# EAGLE library part PRO_TRINKET (library TinkerTech)
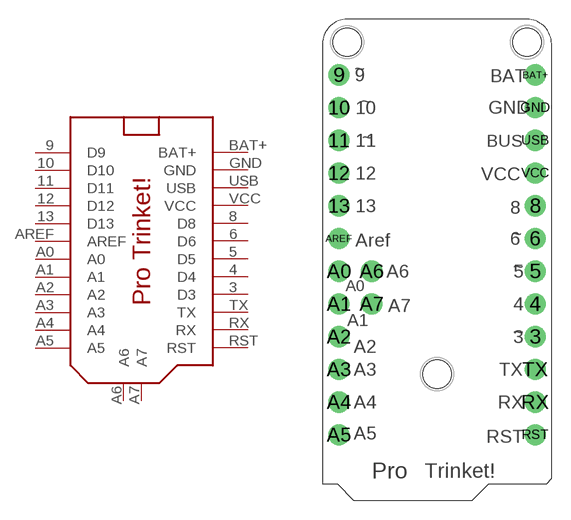
[diagram p0: symbol with the pads of PROTRINKET; footprint PROTRINKET]

Designator prefix -

## PRO_TRINKET  [PROTRINKET]
3  D3
4  D4
5  D5
6  D6
8  D8
9  D9
10  D10
11  D11
12  D12
13  D13
A0  A0
A1  A1
A2  A2
A3  A3
A4  A4
A5  A5
A6  A6  pas
A7  A7  pas
AREF  AREF  pas
BAT+  BAT+  pwr
GND  GND  pwr
RST  RST  pas
RX  RX
TX  TX
USB  USB  pwr
VCC  VCC  pwr

## Footprint PROTRINKET (pad centres in mm)
drill 1.1: 3 7.62,2.921; 4 7.62,5.461; 5 7.62,8.001; 6 7.62,10.541; 8 7.62,13.081; 9 -7.62,23.241; 10 -7.62,20.701; 11 -7.62,18.161; 12 -7.62,15.621; 13 -7.62,13.081; A0 -7.62,8.001; A1 -7.62,5.461; A2 -7.62,2.921; A3 -7.62,0.381; A4 -7.62,-2.159; A5 -7.62,-4.699; A6 -5.08,8.001; A7 -5.08,5.461; AREF -7.62,10.541; BAT+ 7.62,23.241; GND 7.62,20.701; RST 7.62,-4.699; RX 7.62,-2.159; TX 7.62,0.381; USB 7.62,18.161; VCC 7.62,15.621
hole 2.2 at -6.985,25.781
hole 2.2 at 6.985,25.781
hole 2.2 at 0,0